# Altium schematic symbol library POGOpin-1X4-2.54.Schlib: 1 symbol
Pins are listed as number, name and electrical type; pins without a type are passive.

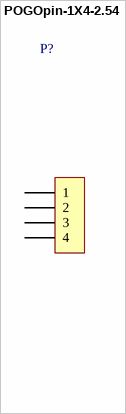
[diagram p0: symbol POGOpin-1X4-2.54]

## POGOpin-1X4-2.54
designator P?
POGOpin-1X4-2.54
pins: 1, 2, 3, 4